# Altium footprint library MolexMicrofit3_4_POS.PcbLib: 1 footprints
Each footprint in its own frame and in the unit in brackets; x right, y up, seen from the top. Pads: shape width x height; smd on the part's side, far side on the other; paste and mask are expansions set on the pad; w line width, h text height; cw(c..) or ccw(c..) is an arc to the next point about the centre after c.
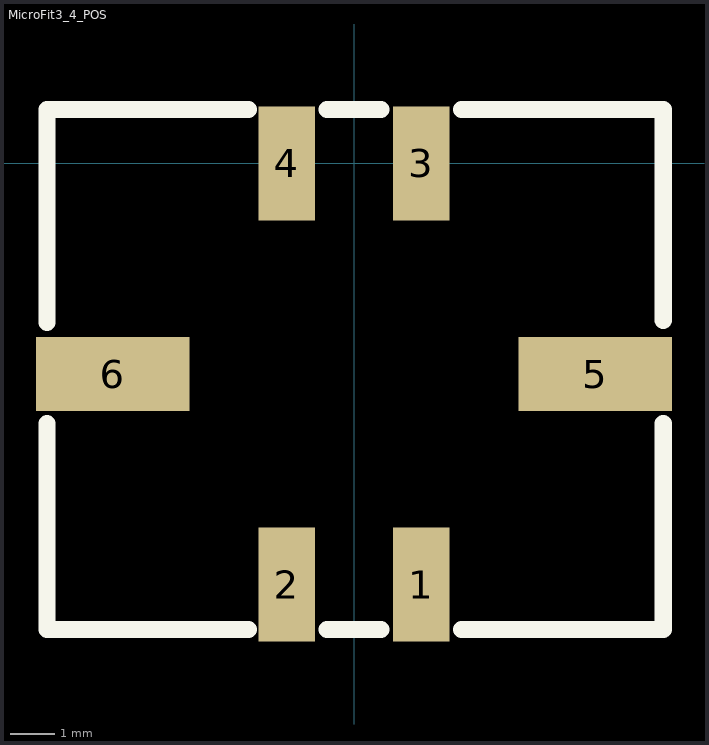
[diagram p0: the footprint, top view; thin cyan lines are the x and y axes]

## MicroFit3_4_POS [mm]
pads (6):
  rect 1.27x2.54 smd: 1(1.5,-9.4) 2(-1.5,-9.4) 3(1.5,0) 4(-1.5,0)
  rect 3.43x1.65 smd: 5(5.385,-4.7) 6(-5.385,-4.7)
Top Overlay:
  lines w0.381: -6.85,-5.8 -6.85,-10.4 -2.35,-10.4 ; -6.85,-3.55 -6.85,1.15 ; -6.85,1.2 -2.35,1.2 ; -0.6,-10.4 0.6,-10.4 ; -0.6,1.2 0.6,1.2 ; 2.4,-10.4 6.9,-10.4 6.9,-5.8 ; 2.4,1.2 6.9,1.2 6.9,-3.5
3D body: height 0.7, standoff 0, extent 0.4,-3.8 0.4,-3.8
3D body "430450418.stp": height 9.97, standoff 0.01, extent -6.825,-10.31 6.825,0.89